# Altium footprint library HT-HC01.PcbLib: 1 footprints
Each footprint in its own frame and in the unit in brackets; x right, y up, seen from the top. Pads: shape width x height; smd on the part's side, far side on the other; paste and mask are expansions set on the pad; w line width, h text height; cw(c..) or ccw(c..) is an arc to the next point about the centre after c.
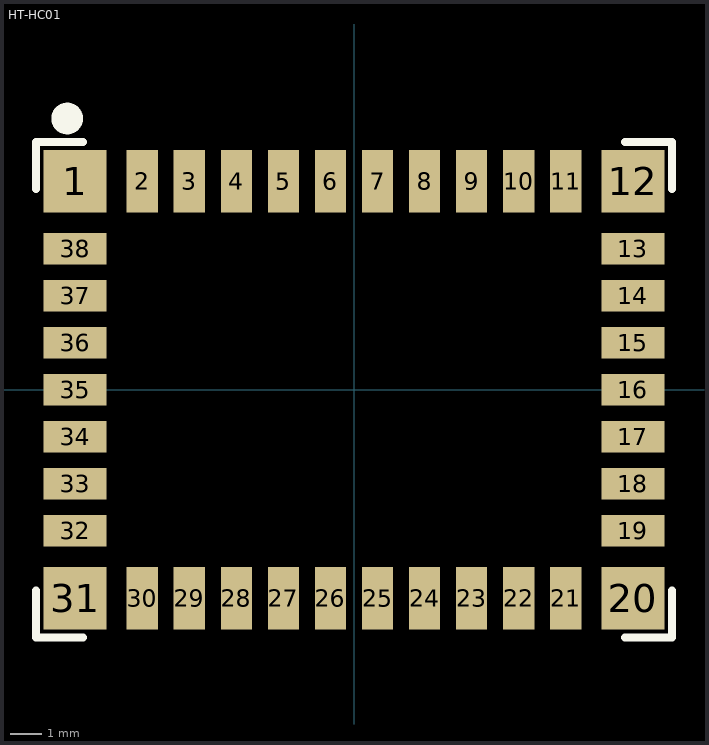
[diagram p0: the footprint, top view; thin cyan lines are the x and y axes]

## HT-HC01 [mm]
pads (38):
  rect 2x2 smd: 1(-8.9,6.65) 12(8.9,6.65) 20(8.9,-6.65) 31(-8.9,-6.65)
  rect 1x2 smd: 2(-6.75,6.65) 3(-5.25,6.65) 4(-3.75,6.65) 5(-2.25,6.65) 6(-0.75,6.65) 7(0.75,6.65) 8(2.25,6.65) 9(3.75,6.65) 10(5.25,6.65) 11(6.75,6.65) 21(6.75,-6.65) 22(5.25,-6.65) 23(3.75,-6.65) 24(2.25,-6.65) 25(0.75,-6.65) 26(-0.75,-6.65) 27(-2.25,-6.65) 28(-3.75,-6.65) 29(-5.25,-6.65) 30(-6.75,-6.65)
  rect 2x1 smd: 13(8.9,4.5) 14(8.9,3) 15(8.9,1.5) 16(8.9,0) 17(8.9,-1.5) 18(8.9,-3) 19(8.9,-4.5) 32(-8.9,-4.5) 33(-8.9,-3) 34(-8.9,-1.5) 35(-8.9,0) 36(-8.9,1.5) 37(-8.9,3) 38(-8.9,4.5)
Top Overlay:
  circle w0.508: c-9.15,8.65 r0.25
  lines w0.254: -10.15,-6.4 -10.15,-7.9 -8.65,-7.9 ; -10.15,6.4 -10.15,7.9 -8.65,7.9 ; 8.65,-7.9 10.15,-7.9 10.15,-6.4 ; 8.65,7.9 10.15,7.9 10.15,6.4
Mechanical 2:
  lines w0.2: -9.25,6 -8.25,7